# EAGLE library part BEAGLEBONE_BLACK (library BeagleBone)
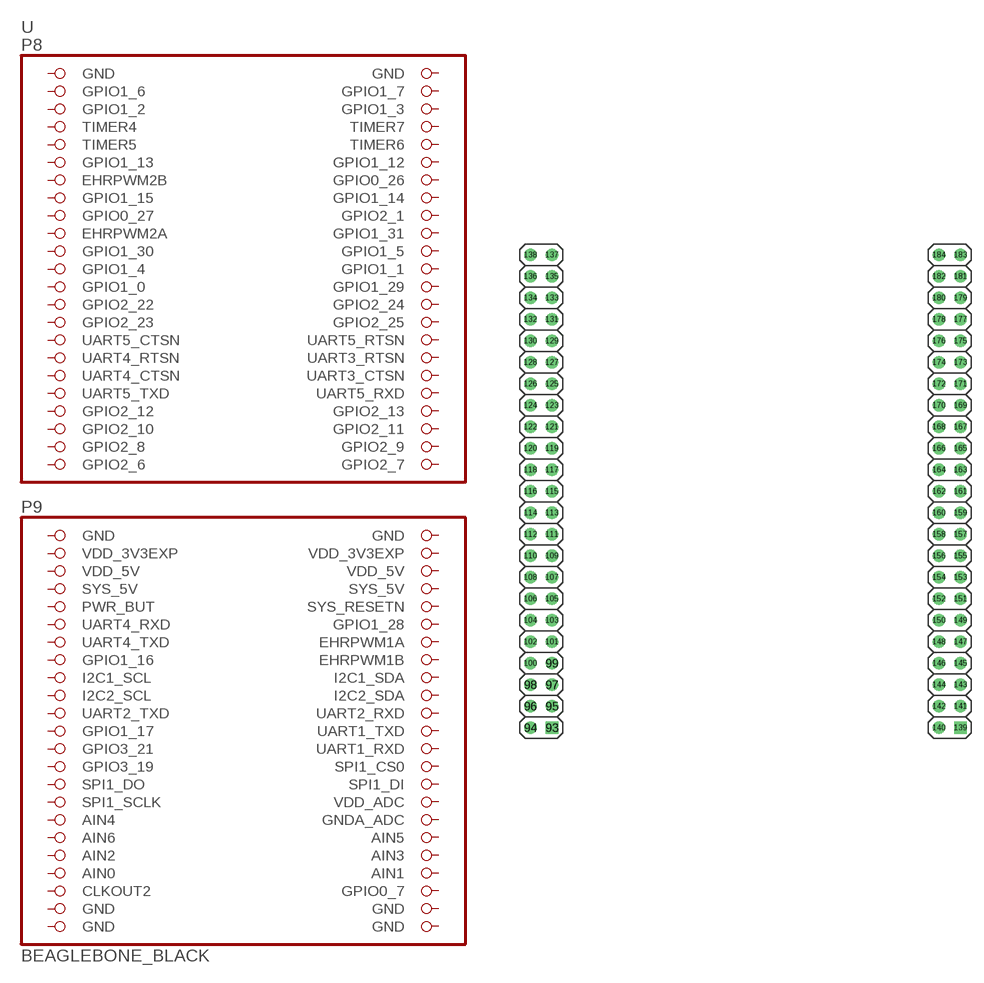
[diagram p0: symbol with the pads of BEAGEBONE; footprint BEAGEBONE]

Designator prefix -

## BEAGLEBONE_BLACK  [BEAGEBONE]
93  GPIO2_7  pas
94  GPIO2_6  pas
95  GPIO2_9  pas
96  GPIO2_8  pas
97  GPIO2_11  pas
98  GPIO2_10  pas
99  GPIO2_13  pas
100  GPIO2_12  pas
101  UART5_RXD  pas
102  UART5_TXD  pas
103  UART3_CTSN  pas
104  UART4_CTSN  pas
105  UART3_RTSN  pas
106  UART4_RTSN  pas
107  UART5_RTSN  pas
108  UART5_CTSN  pas
109  GPIO2_25  pas
110  GPIO2_23  pas
111  GPIO2_24  pas
112  GPIO2_22  pas
113  GPIO1_29  pas
114  GPIO1_0  pas
115  GPIO1_1  pas
116  GPIO1_4  pas
117  GPIO1_5  pas
118  GPIO1_30  pas
119  GPIO1_31  pas
120  EHRPWM2A  pas
121  GPIO2_1  pas
122  GPIO0_27  pas
123  GPIO1_14  pas
124  GPIO1_15  pas
125  GPIO0_26  pas
126  EHRPWM2B  pas
127  GPIO1_12  pas
128  GPIO1_13  pas
129  TIMER6  pas
130  TIMER5  pas
131  TIMER7  pas
132  TIMER4  pas
133  GPIO1_3  pas
134  GPIO1_2  pas
135  GPIO1_7  pas
136  GPIO1_6  pas
137  GND  pwr
138  GND  pwr
139  GND  pwr
140  GND  pwr
141  GND  pwr
142  GND  pwr
143  GPIO0_7  pas
144  CLKOUT2  in
145  AIN1  pas
146  AIN0  pwr
147  AIN3  pas
148  AIN2  pas
149  AIN5  pas
150  AIN6  pas
151  GNDA_ADC  pas
152  AIN4  pas
153  VDD_ADC  pas
154  SPI1_SCLK  pas
155  SPI1_DI  pas
156  SPI1_DO  pas
157  SPI1_CS0  pas
158  GPIO3_19  pas
159  UART1_RXD  pas
160  GPIO3_21  pas
161  UART1_TXD  pas
162  GPIO1_17  pas
163  UART2_RXD  pas
164  UART2_TXD  pas
165  I2C1_SDA  pas
166  I2C2_SCL  pas
167  I2C2_SDA  pas
168  I2C1_SCL  pas
169  EHRPWM1B  pas
170  GPIO1_16  pas
171  EHRPWM1A  pas
172  UART4_TXD  pas
173  GPIO1_28  pas
174  UART4_RXD  pas
175  SYS_RESETN  pas
176  PWR_BUT  pas
177  SYS_5V  pas
178  SYS_5V  pwr
179  VDD_5V  pwr
180  VDD_5V  pwr
181  VDD_3V3EXP  pwr
182  VDD_3V3EXP  pwr
183  GND  pwr
184  GND  pwr

## Footprint BEAGEBONE (pad centres in mm)
drill 1 square: 93 -22.225,-33.02; 139 26.035,-33.02
drill 1: 94 -24.765,-33.02; 95 -22.225,-30.48; 96 -24.765,-30.48; 97 -22.225,-27.94; 98 -24.765,-27.94; 99 -22.225,-25.4; 100 -24.765,-25.4; 101 -22.225,-22.86; 102 -24.765,-22.86; 103 -22.225,-20.32; 104 -24.765,-20.32; 105 -22.225,-17.78; 106 -24.765,-17.78; 107 -22.225,-15.24; 108 -24.765,-15.24; 109 -22.225,-12.7; 110 -24.765,-12.7; 111 -22.225,-10.16; 112 -24.765,-10.16; 113 -22.225,-7.62; 114 -24.765,-7.62; 115 -22.225,-5.08; 116 -24.765,-5.08; 117 -22.225,-2.54; 118 -24.765,-2.54; 119 -22.225,0; 120 -24.765,0; 121 -22.225,2.54; 122 -24.765,2.54; 123 -22.225,5.08; 124 -24.765,5.08; 125 -22.225,7.62; 126 -24.765,7.62; 127 -22.225,10.16; 128 -24.765,10.16; 129 -22.225,12.7; 130 -24.765,12.7; 131 -22.225,15.24; 132 -24.765,15.24; 133 -22.225,17.78; 134 -24.765,17.78; 135 -22.225,20.32; 136 -24.765,20.32; 137 -22.225,22.86; 138 -24.765,22.86; 140 23.495,-33.02; 141 26.035,-30.48; 142 23.495,-30.48; 143 26.035,-27.94; 144 23.495,-27.94; 145 26.035,-25.4; 146 23.495,-25.4; 147 26.035,-22.86; 148 23.495,-22.86; 149 26.035,-20.32; 150 23.495,-20.32; 151 26.035,-17.78; 152 23.495,-17.78; 153 26.035,-15.24; 154 23.495,-15.24; 155 26.035,-12.7; 156 23.495,-12.7; 157 26.035,-10.16; 158 23.495,-10.16; 159 26.035,-7.62; 160 23.495,-7.62; 161 26.035,-5.08; 162 23.495,-5.08; 163 26.035,-2.54; 164 23.495,-2.54; 165 26.035,0; 166 23.495,0; 167 26.035,2.54; 168 23.495,2.54; 169 26.035,5.08; 170 23.495,5.08; 171 26.035,7.62; 172 23.495,7.62; 173 26.035,10.16; 174 23.495,10.16; 175 26.035,12.7; 176 23.495,12.7; 177 26.035,15.24; 178 23.495,15.24; 179 26.035,17.78; 180 23.495,17.78; 181 26.035,20.32; 182 23.495,20.32; 183 26.035,22.86; 184 23.495,22.86